# Altium footprint library BMS.Pcb.lib.PcbLib: 38 footprints (part 2 of 3)
Each footprint in its own frame and in the unit in brackets; x right, y up, seen from the top. Pads: shape width x height; smd on the part's side, far side on the other; paste and mask are expansions set on the pad; w line width, h text height; cw(c..) or ccw(c..) is an arc to the next point about the centre after c.
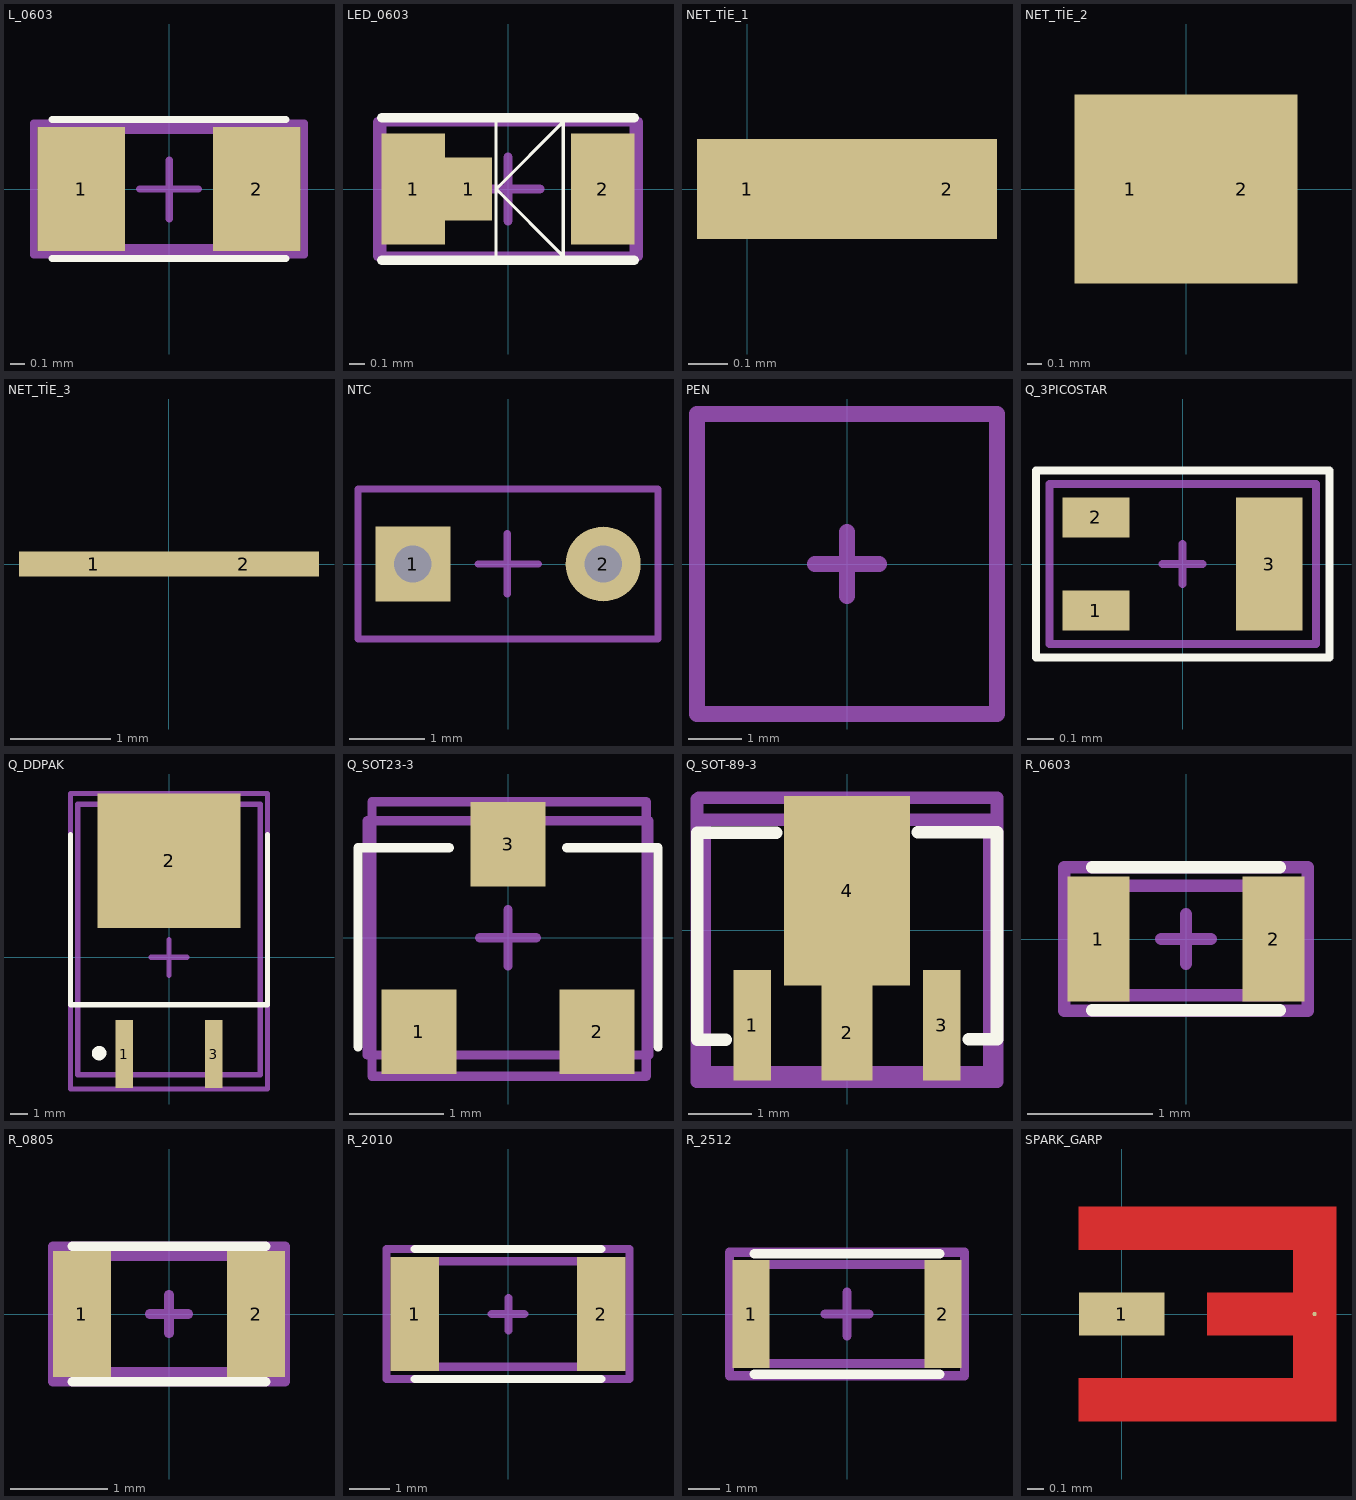
[diagram p1: the footprints below, top view; thin cyan lines are the x and y axes]

## L_0603 [mm]
pads (2):
  rect 0.6x0.85 smd mask+0.005: 1(-0.6,0) 2(0.6,0)
Top Overlay:
  lines w0.05: -0.8,-0.475 0.8,-0.475 ; -0.8,0.475 0.8,0.475
Top Designator:
  lines w0.05: -0.925,-0.45 -0.925,0.45 0.925,0.45 0.925,-0.45 -0.925,-0.45
  text ".Designator" at -0.996,0.762 h1
Top Component Center:
  lines w0.05: -0.2,0 0.2,0 ; 0.001,-0.203 0.001,0.197 ; -0.925,-0.45 -0.925,0.45 0.925,0.45 0.925,-0.45 -0.925,-0.45
Top 3D Body:
  lines w0.05: -0.8,-0.4 -0.8,0.4 0.8,0.4 0.8,-0.4 -0.8,-0.4
3D body "L_0603.STEP": height 0.8, standoff 0, extent -0.8,-0.4 0.8,0.4

## LED_0603 [mm]
pads (3):
  rect 0.4x0.7 smd mask+0.005: 1(-0.6,0) 2(0.6,0)
  rect 0.3x0.4 smd mask+0.005: 1(-0.25,0)
Top Overlay:
  lines w0.02: -0.075,-0.425 -0.075,0.425 ; -0.075,0 0.35,-0.425 0.35,0.425 -0.075,0
  lines w0.06: -0.8,-0.45 0.8,-0.45 ; -0.8,0.45 0.8,0.45
Top Designator:
  lines w0.06: -0.825,-0.425 -0.825,0.425 0.825,0.425 0.825,-0.425 -0.825,-0.425
  text ".Designator" at -1.096,1.012 h1
Top Component Center:
  lines w0.06: -0.2,0 0.2,0 ; 0,-0.2 0,0.2 ; -0.825,-0.425 -0.825,0.425 0.825,0.425 0.825,-0.425 -0.825,-0.425
Top 3D Body:
  lines w0.06: -0.8,-0.425 -0.8,0.425 0.8,0.425 0.8,-0.425 -0.8,-0.425
3D body "LED_0603.step": height 0.8, standoff 0, extent -0.8,-0.4 0.8,0.4

## NET_TİE_1 [mil]
pads (3):
  rect 9x10 smd mask+0.2: 1(0,0) 2(20,0)
  rect 30x10 smd mask+0.2: ""(10,0)

## NET_TİE_2 [mm]
pads (2):
  rect 0.75x1.27 smd mask+0.005: 1(-0.375,0) 2(0.375,0)

## NET_TİE_3 [mm]
pads (2):
  rect 1.5x0.25 smd mask+0.005: 1(-0.75,0) 2(0.75,0)

## NTC [mm]
pads (2):
  rect 1x1 hole 0.5 mask+0.005: 1(-1.27,0)
  round 1 hole 0.5 mask+0.005: 2(1.27,0)
Top Designator:
  lines w0.1: -2,-1 -2,1 2,1 2,-1 -2,-1
  text ".Designator" at -2.446,1.587 h1
Top Component Center:
  lines w0.1: -0.4,0 0.4,0 ; -0.007,-0.397 -0.007,0.403 ; -2,-1 -2,1 2,1 2,-1 -2,-1
Top 3D Body:
  lines w0.1: -2,-1 2,-1 2,1 -2,1 -2,-1
3D body "NXRT15WB473FA1B020.STEP": height 7.5, standoff -13.5, extent -2,-1 2,1

## PEN [mm]
Top Designator:
  lines w0.3: -2.8,-2.8 -2.8,2.8 2.8,2.8 2.8,-2.8 -2.8,-2.8
  text ".Designator" at -4.646,3.487 h1
Top Component Center:
  lines w0.3: -0.6,0 0.6,0 ; 0,-0.6 0,0.6 ; -2.8,-2.8 2.8,-2.8 2.8,2.8 -2.8,2.8 -2.8,-2.8
Top 3D Body:
  lines w0.3: -2.8,-2.8 2.8,-2.8 2.8,2.8 -2.8,2.8 -2.8,-2.8
3D body "PEN.stp": height 21.11, standoff 0.05, extent -2.781,-2.769 2.781,2.769

## Q_3PICOSTAR [mm]
pads (3):
  rect 0.25x0.15 smd mask+0.005: 1(-0.325,-0.175) 2(-0.325,0.175)
  rect 0.25x0.5 smd mask+0.005: 3(0.325,0)
Top Overlay:
  lines w0.03: -0.55,-0.35 -0.55,0.35 0.55,0.35 0.55,-0.35 -0.55,-0.35
Top Designator:
  lines w0.03: -0.5,-0.3 0.5,-0.3 0.5,0.3 -0.5,0.3 -0.5,-0.3
  text ".Designator" at -2.696,0.762 h1
Top Component Center:
  lines w0.03: -0.075,0 0.075,0 ; 0,-0.075 0,0.075 ; -0.5,-0.3 -0.5,0.3 0.5,0.3 0.5,-0.3 -0.5,-0.3
Top 3D Body:
  lines w0.03: -0.5,-0.3 0.5,-0.3 0.5,0.3 -0.5,0.3 -0.5,-0.3
3D body "Q_3PICOSTRA.step": height 0.35, standoff 0, extent -0.5,-0.3 0.5,0.3

## Q_DDPAK [mm]
pads (3):
  rect 1x3.8 smd mask+0.005: 1(-2.5,-5.4) 3(2.5,-5.4)
  rect 8x7.5 smd mask+0.005: 2(0,5.4)
Top Overlay:
  circle w0.5: c-3.9,-5.35 r0.15
  lines w0.3: -5.5,6.85 -5.5,-2.65 5.5,-2.65 5.5,6.85
Top Designator:
  lines w0.3: -5.5,-7.35 5.5,-7.35 5.5,9.15 -5.5,9.15 -5.5,-7.35
  text ".Designator" at -5.046,10.637 h1
Top Component Center:
  lines w0.3: -1,0 1,0 ; 0,-1 0,1 ; -5.5,-7.35 -5.5,9.15 5.5,9.15 5.5,-7.35 -5.5,-7.35
Top 3D Body:
  lines w0.3: -5.1,-6.55 -5.1,8.55 5.1,8.55 5.1,-6.55 -5.1,-6.55
3D body "Q_DDPAK.stp": height 4.67, standoff 0, extent -5.08,-6.526 5.08,8.545

## Q_SOT23-3 [mm]
pads (3):
  rect 0.8x0.9 smd mask+0.005: 1(-0.95,-1) 2(0.95,-1) 3(0,1)
Top Overlay:
  lines w0.1: -1.6,-1.162 -1.6,0.962 -0.625,0.962 ; 0.625,0.962 1.6,0.962 1.6,-1.162
Top Designator:
  lines w0.1: -1.45,-1.475 -1.45,1.45 1.475,1.45 1.475,-1.475 -1.45,-1.475
  text ".Designator" at -3.321,1.987 h1
Top Component Center:
  lines w0.1: -0.3,0 0.3,0 ; 0,-0.3 0,0.3 ; -1.45,-1.475 -1.45,1.45 1.475,1.45 1.475,-1.475 -1.45,-1.475
Top 3D Body:
  lines w0.1: -1.5,-1.25 -1.5,1.25 1.5,1.25 1.5,-1.25 -1.5,-1.25
3D body "Q_SOT23-3.step": height 1.14, standoff 0, extent -1.45,-1.2 1.45,1.2

## Q_SOT-89-3 [mm]
pads (4):
  rect 0.6x1.75 smd mask+0.005: 1(-1.5,-1.5) 3(1.5,-1.5)
  rect 0.8x1.5 smd mask+0.005: 2(0,-1.625)
  rect 2x3 smd mask+0.005: 4(0,0.625)
Top Overlay:
  lines w0.2: -1.921,-1.733 -2.371,-1.733 -2.371,1.542 -1.125,1.542 ; 1.125,1.55 2.375,1.55 2.375,-1.725 1.925,-1.725
Top Designator:
  lines w0.2: -2.375,2.075 -2.375,-2.4 2.375,-2.4 2.375,2.1 -2.35,2.1
  text ".Designator" at -4.271,2.762 h1
Top Component Center:
  lines w0.2: -2.375,2.075 -2.375,-2.4 2.375,-2.4 2.375,2.1 -2.35,2.1 ; -0.5,0 0.5,0 ; 0,-0.5 0,0.5
Top 3D Body:
  lines w0.2: -2.25,-2.25 -2.25,1.75 2.25,1.75 2.25,-2.25 -2.25,-2.25
3D body "Q_SOT89-3.STEP": height 1.6, standoff 0, extent -2.25,-2.25 2.25,1.75

## R_0603 [mm]
pads (2):
  rect 0.5x1 smd mask+0.005: 1(-0.7,0) 2(0.7,0)
Top Overlay:
  lines w0.1: -0.75,0.575 0.75,0.575 ; -0.749,-0.569 0.751,-0.569
Top Designator:
  lines w0.1: -0.975,-0.575 0.975,-0.575 0.975,0.575 -0.975,0.575 -0.975,-0.575
  text ".Designator" at -1.096,0.937 h1
Top Component Center:
  lines w0.1: -0.2,0 0.2,0 ; 0,-0.2 0,0.2 ; -0.975,-0.575 0.975,-0.575 0.975,0.575 -0.975,0.575 -0.975,-0.575
Top 3D Body:
  lines w0.1: -0.775,-0.45 0.775,-0.45 0.775,0.425 -0.775,0.425 -0.775,-0.45
3D body "R_0603.step": height 0.55, standoff 0, extent -0.775,-0.425 0.775,0.425

## R_0805 [mm]
pads (2):
  rect 0.6x1.3 smd mask+0.005: 1(-0.9,0) 2(0.9,0)
Top Overlay:
  lines w0.1: -1,-0.7 1,-0.7 ; -1,0.7 1,0.7
Top Designator:
  lines w0.1: -1.2,-0.7 -1.2,0.7 1.2,0.7 1.2,-0.7 -1.2,-0.7
  text ".Designator" at -1.146,1.287 h1
Top Component Center:
  lines w0.1: -0.2,0 0.2,0 ; 0,-0.2 0,0.2 ; -1.2,-0.7 1.2,-0.7 1.2,0.7 -1.2,0.7 -1.2,-0.7
Top 3D Body:
  lines w0.1: -1,-0.6 -1,0.6 1,0.6 1,-0.6 -1,-0.6
3D body "R_0805.step": height 0.5, standoff 0, extent -1,-0.625 1,0.625

## R_2010 [mm]
pads (2):
  rect 1.2x2.8 smd mask+0.005: 1(-2.3,0) 2(2.3,0)
Top Overlay:
  lines w0.2: -2.3,-1.6 2.3,-1.6 ; -2.3,1.6 2.3,1.6
Top Designator:
  lines w0.2: -3,-1.6 3,-1.6 3,1.6 -3,1.6 -3,-1.6
  text ".Designator" at -2.671,-0.363 h1
Top Component Center:
  lines w0.2: -0.4,0 0.4,0 ; 0.008,-0.403 0.008,0.397 ; -3,-1.6 -3,1.6 3,1.6 3,-1.6 -3,-1.6
Top 3D Body:
  lines w0.2: -2.5,-1.3 2.5,-1.3 2.5,1.3 -2.5,1.3 -2.5,-1.3
3D body "R_2010.step": height 0.7, standoff 0, extent -2.5,-1.25 2.5,1.25

## R_2512 [mm]
pads (2):
  rect 1.2x3.5 smd mask+0.005: 1(-3.1,0) 2(3.1,0)
Top Overlay:
  lines w0.3: -3,-1.95 3,-1.95 ; -3,1.95 3,1.95
Top Designator:
  lines w0.3: -3.8,-2 -3.8,2 3.8,2 3.8,-2 -3.8,-2
  text ".Designator" at -4.846,2.887 h1
Top Component Center:
  lines w0.3: -0.7,0 0.7,0 ; 0,-0.7 0,0.7 ; -3.8,-2 -3.8,2 3.8,2 3.8,-2 -3.8,-2
Top 3D Body:
  lines w0.3: -3.2,-1.6 -3.2,1.6 3.2,1.6 3.2,-1.6 -3.2,-1.6
3D body "R_2512.step": height 0.7, standoff 0, extent -3.15,-1.575 3.15,1.575

## SPARK_GARP [mil]
pads (3):
  rect 20x10 smd mask+0.2: 1(0,0)
  round 1 smd mask+0.2: 2(45,0)
  rect 70x50 on Top Solder mask+0.2: ""(15,0)
Top Layer:
  region: -10,25 -10,15 40,15 40,5 20,5 20,-5 40,-5 40,-15 -10,-15 -10,-25 50,-25 50,25